# EAGLE library part MAX11359A (library max11359)
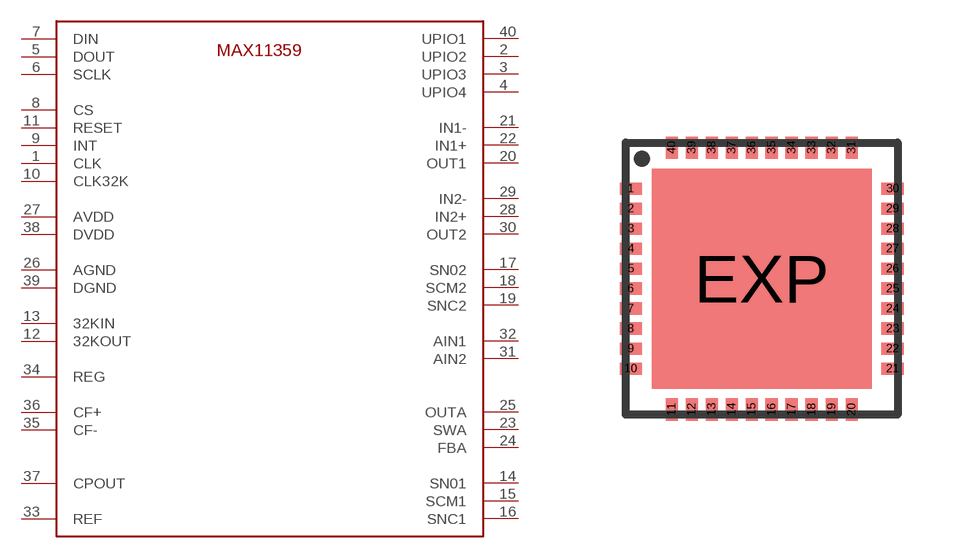
[diagram p0: symbol with the pads of TQFN; footprint TQFN]

Designator prefix -

## MAX11359A  [TQFN]
1  CLK
2  UPIO2
3  UPIO3
4  UPIO4
5  DOUT
6  SCLK
7  DIN
8  CS
9  INT
10  CLK32K
11  RESET
12  32KOUT
13  32KIN
14  SN01
15  SCM1
16  SNC1
17  SN02
18  SCM2
19  SNC2
20  OUT1
21  IN1-
22  IN1+
23  SWA
24  FBA
25  OUTA
26  AGND
27  AVDD
28  IN2+
29  IN2-
30  OUT2
31  AIN2
32  AIN1
33  REF
34  REG
35  CF-
36  CF+
37  CPOUT
38  DVDD
39  DGND
40  UPIO1

## Footprint TQFN (pad centres in mm)
smd 0.55 x 0.3: 1 0.535,-1.56; 2 0.535,-2.06; 3 0.535,-2.56; 4 0.535,-3.06; 5 0.535,-3.56; 6 0.535,-4.06; 7 0.535,-4.56; 8 0.535,-5.06; 9 0.535,-5.56; 10 0.535,-6.06; 21 7.085,-6.06; 22 7.085,-5.56; 23 7.085,-5.06; 24 7.085,-4.56; 25 7.085,-4.06; 26 7.085,-3.56; 27 7.085,-3.06; 28 7.085,-2.56; 29 7.085,-2.06; 30 7.085,-1.56
smd 0.3 x 0.55: 11 1.56,-7.085; 12 2.06,-7.085; 13 2.56,-7.085; 14 3.06,-7.085; 15 3.56,-7.085; 16 4.06,-7.085; 17 4.56,-7.085; 18 5.06,-7.085; 19 5.56,-7.085; 20 6.06,-7.085; 31 6.06,-0.535; 32 5.56,-0.535; 33 5.06,-0.535; 34 4.56,-0.535; 35 4.06,-0.535; 36 3.56,-0.535; 37 3.06,-0.535; 38 2.56,-0.535; 39 2.06,-0.535; 40 1.56,-0.535
smd 5.5 x 5.5: EXP 3.81,-3.81